# Altium footprint library SMD Inductors.PcbLib: 4 footprints
Each footprint in its own frame and in the unit in brackets; x right, y up, seen from the top. Pads: shape width x height; smd on the part's side, far side on the other; paste and mask are expansions set on the pad; w line width, h text height; cw(c..) or ccw(c..) is an arc to the next point about the centre after c.
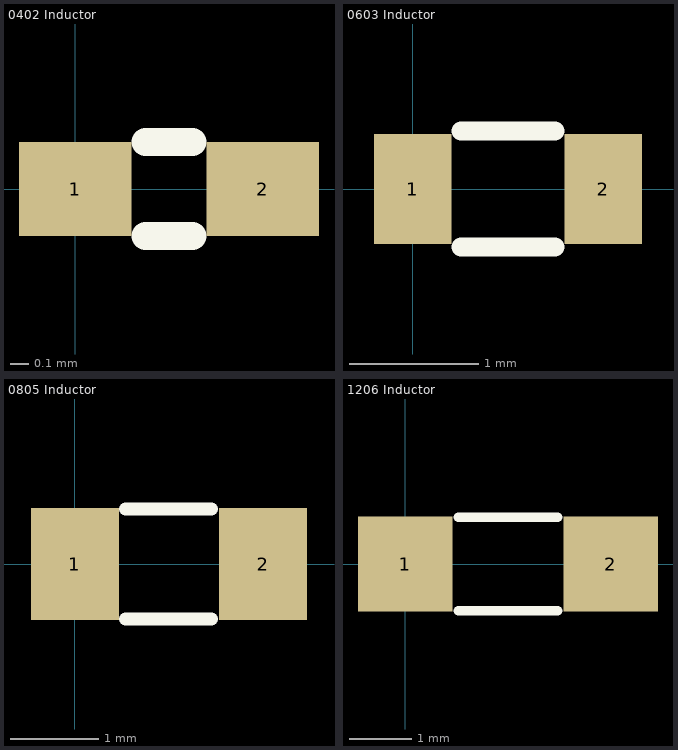
[diagram p0: the footprints below, top view; thin cyan lines are the x and y axes]

## 0402 Inductor [mm]
pads (2):
  rect 0.6x0.5 smd: 1(0,0) 2(1,0)
Top Overlay:
  lines w0.15: 0.375,-0.25 0.625,-0.25 ; 0.375,0.25 0.625,0.25
3D body: height 0.65, standoff -0.01, extent -0.094,-0.256 1.026,0.256

## 0603 Inductor [mm]
pads (2):
  rect 0.6x0.85 smd: 1(0,0) 2(1.475,0)
Top Overlay:
  lines w0.15: 0.375,-0.45 1.1,-0.45 ; 0.375,0.45 1.1,0.45
3D body: height 0.78, standoff -0.02, extent -0.05,-0.4 1.55,0.4

## 0805 Inductor [mil]
pads (2):
  rect 39.37x50 smd: 1(0,0) 2(84,0)
Top Overlay:
  lines w5.91: 22.64,-24.61 61.02,-24.61 ; 22.64,24.61 61.02,24.61
3D body: height 37.4, standoff 0, extent 0.63,-23.62 79.37,23.63

## 1206 Inductor [mil]
pads (2):
  rect 60x60 smd: 1(0,0) 2(130,0)
Top Overlay:
  lines w5.91: 33.46,-29.53 96.46,-29.53 ; 33.46,29.53 96.46,29.53
3D body: height 43.31, standoff 0, extent 2.02,-31.49 128,31.51